# Altium integrated library IR7184STRPBF.IntLib: 1 symbol
Pins are listed as number, name and electrical type; pins without a type are passive.

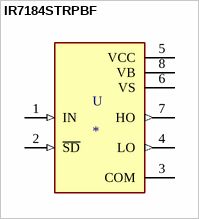
[diagram p0: symbol IR7184STRPBF]

## IR7184STRPBF
designator U
Drives IGBT/MOSFET power devices | Gate drive supplies up to 20 V per channel | Integrated deadtime protection | Shoot-through _cross-conduction_ protection | Undervoltage lockout for VCC for VBS | 3.3 V, 5 V , 15 V input logic compatible | Tolerant to negative transient voltage | Designed for use with bootstrap power supplies | Matched propagation delays | -40C to 125C operating range; MP: IR7184STRPBF; MF: Infineon Technologies; Value: *; Package: SOIC-8 Infineon; Price: None; Availability: Unavailable; SnapEDA_Link: https://www.snapeda.com/parts/IR7184STRPBF/Infineon%20Technologies/view-part/1224754/?ref=snap
footprint SOIC127P600X175-8N
pins: 1 IN (in), 2 ~{SD} (in), 3 COM (power), 4 LO (out), 5 VCC (power), 6 VS (power), 7 HO (out), 8 VB (power)